# EAGLE library part 750811290 (library WE-OLLT)
WE-OLLT Offline Flyback Transformers Characteristics Flyback topology Designs for Universal, US and European input voltages Low leakage inductance Isolation voltage up to 4500VAC Operating temperature: –40 °C to +125 °C Most products meet reinforced insulation Applications Offline Applications High DC VIN Isolated Applications Offline Bus Converter (12V, 24V or 48V Outputs) Industrial power supplies Medical power supplies Auxiliary power supply Home appliances Consumer electronics <https://www.we-online.com/components/media/o784499v209%20FAMILY-MID-OLLT-mixed.jpg> Details see: www.we-online.com/en/components/products/WE-OLLT <www.we-online.com/catalog/WE-OLLT/?utm_source=eagle_model&utm_medium=description_link&utm_campaign=eisos_eagle> Created by Ella Wu 2024-07-03 2024 (C) Wurth Elektronik
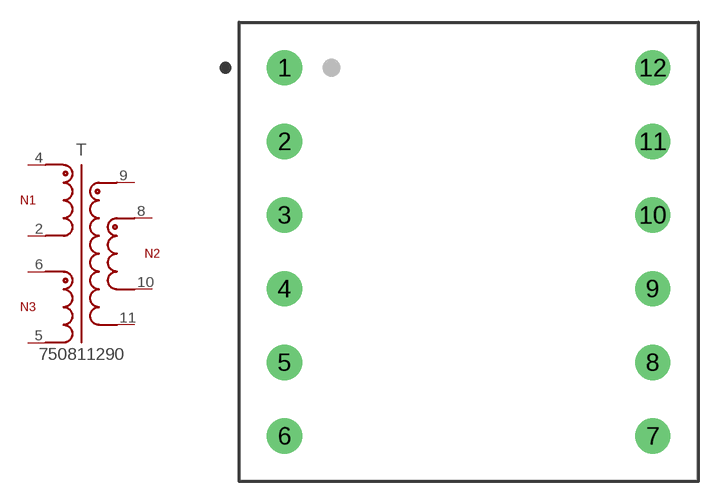
[diagram p9: symbol with the pads of WE-OLLT_ER28/14_L31W31H25_PAD1.6; footprint WE-OLLT_ER28/14_L31W31H25_PAD1.6]

Designator prefix T

## 750811290 (DATASHEET-URL: https://www.we-online.com/redexpert/spec/750811290?ae; FSWITCH: 150kHz; HEIGHT: 25mm; IOUT1: 360A; ISAT: 3150V; L: 0.461uH; LENGTH: 31mm; MOUNT: THT; N: 1:1:0.17; PART-NUMBER: 750811290; SIZE: ER28/14; VALUE: 750811290; VAUX: 21.25V; VIN: 85 - 265 V (AC); VOUT1: 125V; VT: 4500V(AC); WIDTH: 31mm)  [WE-OLLT_ER28/14_L31W31H25_PAD1.6]
2  2  pas
4  4  pas
5  5  pas
6  6  pas
8  8  pas
9  9  pas
10  10  pas
11  11  pas

## Footprint WE-OLLT_ER28/14_L31W31H25_PAD1.6 (pad centres in mm)
WE-OLLT Offline Flyback Transformers Size: ER28/14,THT,12pins LXWXH=31X31X25mm
drill 1.6: 1 -12.5,12.5; 2 -12.5,7.5; 3 -12.5,2.5; 4 -12.5,-2.5; 5 -12.5,-7.5; 6 -12.5,-12.5; 7 12.5,-12.5; 8 12.5,-7.5; 9 12.5,-2.5; 10 12.5,2.5; 11 12.5,7.5; 12 12.5,12.5